# EAGLE library part BQ51013B (library Texas Instruments)
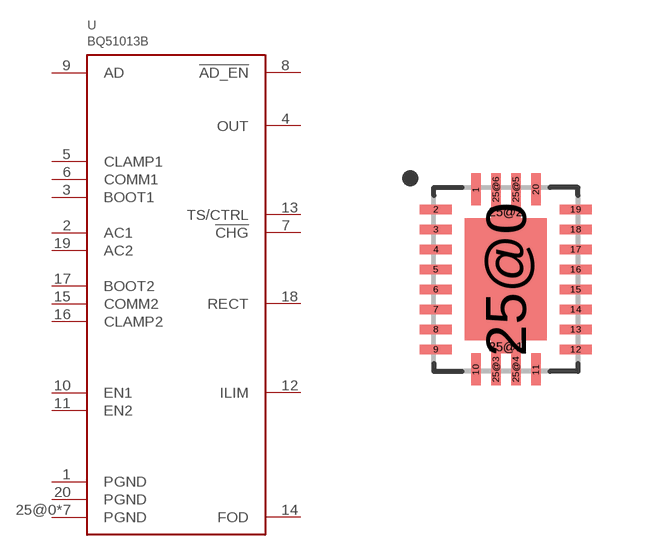
[diagram p5: symbol with the pads of VQFN20; footprint VQFN20]

Designator prefix U

## BQ51013B  [VQFN20]
1  PGND
2  AC1
3  BOOT1
4  OUT
5  CLAMP1
6  COMM1
7  !CHG
8  !AD_EN
9  AD
10  EN1
11  EN2
12  ILIM
13  TS/CTRL
14  FOD
15  COMM2
16  CLAMP2
17  BOOT2
18  RECT
19  AC2
20  PGND
25@0  PGND
25@1  PGND
25@2  PGND
25@3  PGND
25@4  PGND
25@5  PGND
25@6  PGND

## Footprint VQFN20 (pad centres in mm)
smd 0.24 x 0.8: 1 -0.75,2.25; 10 -0.75,-2.25; 11 0.75,-2.25; 20 0.75,2.25; 25@3 -0.25,-2.25; 25@4 0.25,-2.25; 25@5 0.25,2.25; 25@6 -0.25,2.25
smd 0.8 x 0.24: 2 -1.75,1.75; 3 -1.75,1.25; 4 -1.75,0.75; 5 -1.75,0.25; 6 -1.75,-0.25; 7 -1.75,-0.75; 8 -1.75,-1.25; 9 -1.75,-1.75; 12 1.75,-1.75; 13 1.75,-1.25; 14 1.75,-0.75; 15 1.75,-0.25; 16 1.75,0.25; 17 1.75,0.75; 18 1.75,1.25; 19 1.75,1.75
smd 2.05 x 3.05: 25@0 0,0
smd 0.74 x 0.33: 25@1 0,-1.688; 25@2 0,1.688